# Altium schematic symbol library Ikaros.SchLib: 97 symbols
Pins are listed as number, name and electrical type; pins without a type are passive.

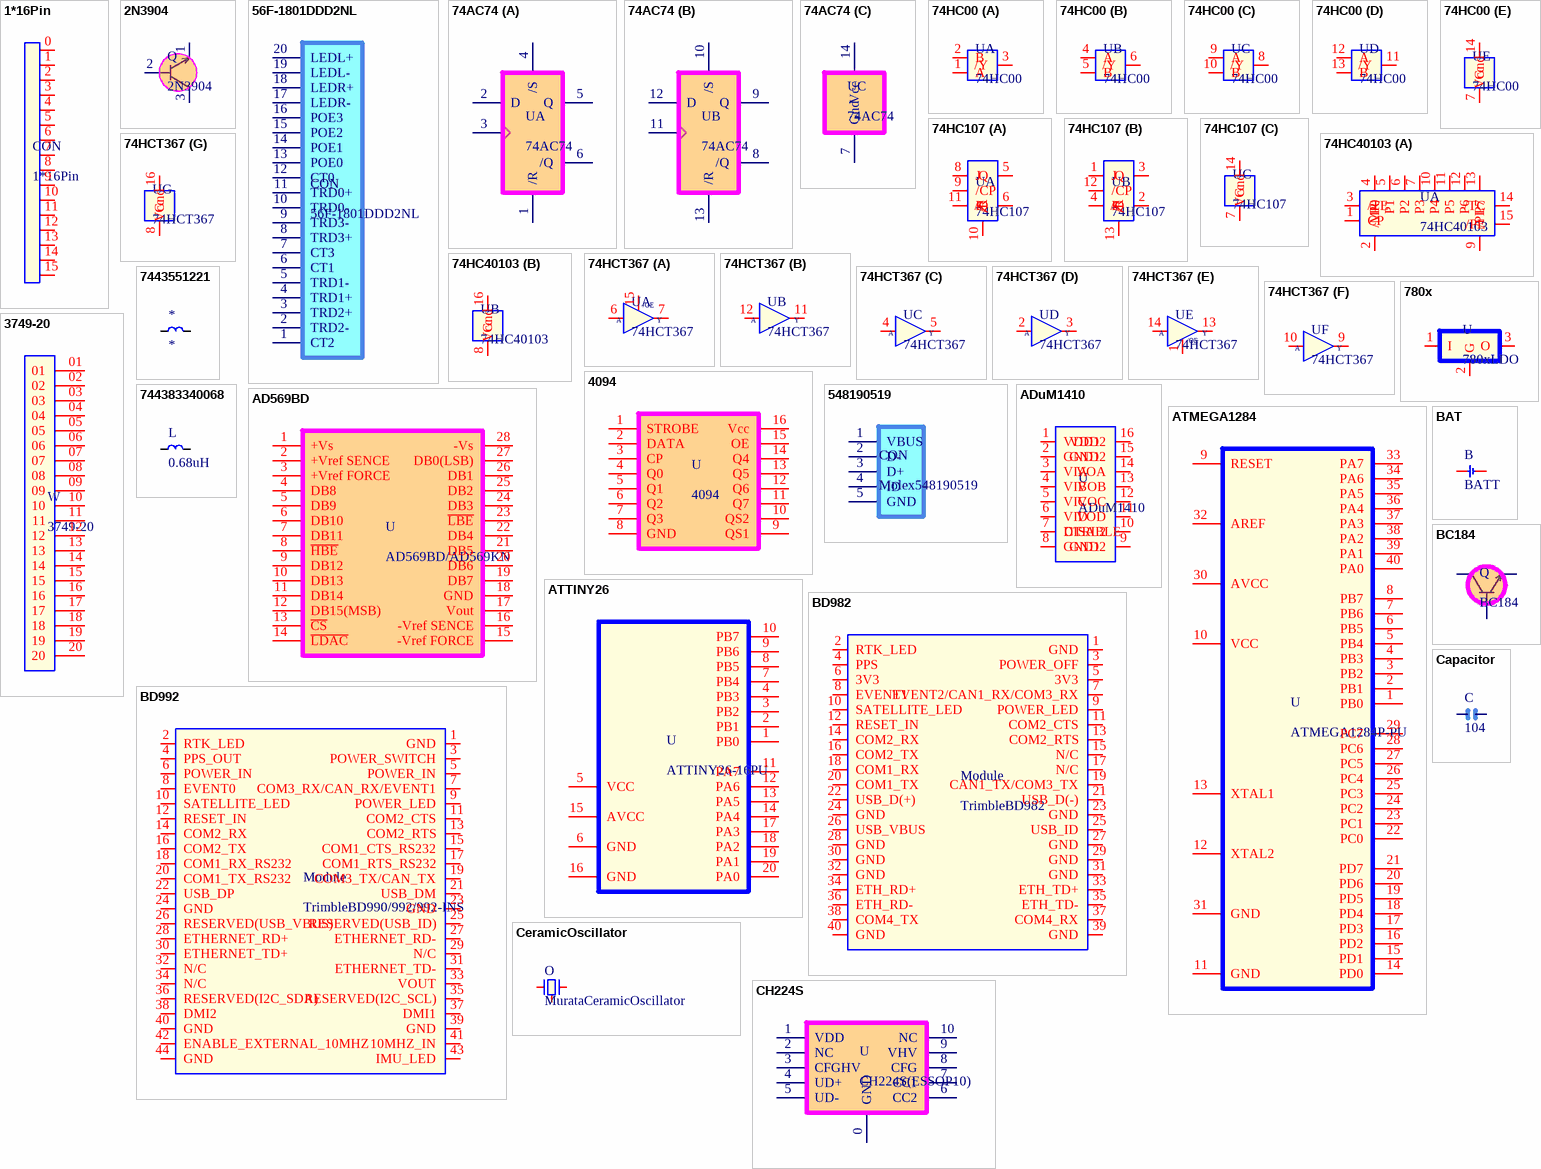
[diagram p0: symbols 1*16Pin to CH224S]

## 1*16Pin
designator CON
pins: 0, 1, 2, 3, 4, 5, 6, 7, 8, 9, 10, 11, 12, 13, 14, 15

## 2N3904
designator Q
pins: 1, 2, 3

## 56F-1801DDD2NL
designator CON
footprint 56F-1801DDD2NL
pins: 1 CT2, 2 TRD2-, 3 TRD2+, 4 TRD1+, 5 TRD1-, 6 CT1, 7 CT3, 8 TRD3+, 9 TRD3-, 10 TRD0-, 11 TRD0+, 12 CT0, 13 POE0, 14 POE1, 15 POE2, 16 POE3, 17 LEDR-, 18 LEDR+, 19 LEDL-, 20 LEDL+

## 74AC74
designator U
part A pins: 1 /R, 2 D, 3, 4 /S, 5 Q, 6 /Q
part B pins: 8 /Q, 9 Q, 10 /S, 11, 12 D, 13 /R
part C pins: 7 Gnd, 14 Vcc

## 74HC00
designator U
part A pins: 1 A, 2 B, 3 /Y
part B pins: 4 A, 5 B, 6 /Y
part C pins: 8 /Y, 9 A, 10 B
part D pins: 11 /Y, 12 A, 13 B
part E pins: 7 Gnd, 14 Vcc

## 74HC107
designator U
part A pins: 5 Q, 6 /Q, 8 J, 9 /CP, 10 /R, 11 K
part B pins: 1 J, 2 /Q, 3 Q, 4 K, 12 /CP, 13 /R
part C pins: 7 Gnd, 14 Vcc

## 74HC40103
designator U
part A pins: 1 CP, 2 /MR, 3 /TE, 4 P0, 5 P1, 6 P2, 7 P3, 9 /PL, 10 P4, 11 P5, 12 P6, 13 P7, 14 /TC, 15 /PE
part B pins: 8 Gnd, 16 Vcc

## 74HCT367
designator U
part A pins: 6 A, 7 Y, 15 /OE
part B pins: 11 Y, 12 A
part C pins: 4 A, 5 Y
part D pins: 2 A, 3 Y
part E pins: 1 /OE, 13 Y, 14 A
part F pins: 9 Y, 10 A
part G pins: 8 Gnd, 16 Vcc

## 780x
designator U, comment 780xLDO
pins: 1 I, 2 G, 3 O

## 3749-20
designator W
footprint 3749-20 (3M 3749-20)
pins: 01, 02, 03, 04, 05, 06, 07, 08, 09, 10, 11, 12, 13, 14, 15, 16, 17, 18, 19, 20

## 4094
designator U
pins: 1 STROBE, 2 DATA, 3 CP, 4 Q0, 5 Q1, 6 Q2, 7 Q3, 8 GND, 9 QS1, 10 QS2, 11 Q7, 12 Q6, 13 Q5, 14 Q4, 15 OE, 16 Vcc

## 548190519
designator CON, comment Molex548190519
footprint 548190519 (Molex548190519)
pins: 1 VBUS, 2 D-, 3 D+, 4 ID, 5 GND

## 7443551221
designator *
footprint 7443551221 (Precision Wire Wound Inductor, 2-Leads, Body 12.80x12.80mm, IPC Medium Density)
pins: 1, 2

## 744383340068
designator L, comment 0.68uH
footprint 744383340068 (Precision Wire Wound Inductor, 2-Leads, Body 3.00x3.00mm, IPC Medium Density)
pins: 1, 2

## AD569BD
designator U, comment AD569BD/AD569KN
pins: 1 +Vs, 2 +Vref SENCE, 3 +Vref FORCE, 4 DB8, 5 DB9, 6 DB10, 7 DB11, 8 ~{HBE}, 9 DB12, 10 DB13, 11 DB14, 12 DB15(MSB), 13 ~{CS}, 14 ~{LDAC}, 15 -Vref FORCE, 16 -Vref SENCE, 17 Vout, 18 GND, 19 DB7, 20 DB6, 21 DB5, 22 DB4, 23 ~{LBE}, 24 DB3, 25 DB2, 26 DB1, 27 DB0(LSB), 28 -Vs

## ADuM1410
designator U
pins: 1 VDD1, 2 GND1, 3 VIA, 4 VIB, 5 VIC, 6 VID, 7 DISABLE, 8 GND1, 9 GND2, 10 CTRL2, 11 VOD, 12 VOC, 13 VOB, 14 VOA, 15 GND2, 16 VDD2

## ATMEGA1284
designator U, comment ATMEGA1284P-PU
footprint DIP40
pins: 1 PB0, 2 PB1, 3 PB2, 4 PB3, 5 PB4, 6 PB5, 7 PB6, 8 PB7, 9 RESET, 10 VCC, 11 GND, 12 XTAL2, 13 XTAL1, 14 PD0, 15 PD1, 16 PD2, 17 PD3, 18 PD4, 19 PD5, 20 PD6, 21 PD7, 22 PC0, 23 PC1, 24 PC2, 25 PC3, 26 PC4, 27 PC5, 28 PC6, 29 PC7, 30 AVCC, 31 GND, 32 AREF, 33 PA7, 34 PA6, 35 PA5, 36 PA4, 37 PA3, 38 PA2, 39 PA1, 40 PA0

## ATTINY26
designator U, comment ATTINY26-16PU
pins: 1 PB0, 2 PB1, 3 PB2, 4 PB3, 5 VCC, 6 GND, 7 PB4, 8 PB5, 9 PB6, 10 PB7, 11 PA7, 12 PA6, 13 PA5, 14 PA4, 15 AVCC, 16 GND, 17 PA3, 18 PA2, 19 PA1, 20 PA0

## BAT
designator B, comment BATT
pins: 1 +, 2 -

## BC184
designator Q
footprint BC184 (NPN SILICON PLANAR EPITAXIAL TRANSISTORS)
pins: 1, 2, 3

## BD982
designator Module, comment TrimbleBD982
footprint BD982 (TrimbleBD982)
pins: 1 GND, 2 RTK_LED, 3 POWER_OFF, 4 PPS, 5 3V3, 6 3V3, 7 EVENT2/CAN1_RX/COM3_RX, 8 EVENT1, 9 POWER_LED, 10 SATELLITE_LED, 11 COM2_CTS, 12 RESET_IN, 13 COM2_RTS, 14 COM2_RX, 15 N/C, 16 COM2_TX, 17 N/C, 18 COM1_RX, 19 CAN1_TX/COM3_TX, 20 COM1_TX, 21 USB_D(-), 22 USB_D(+), 23 GND, 24 GND, 25 USB_ID, 26 USB_VBUS, 27 GND, 28 GND, 29 GND, 30 GND, 31 GND, 32 GND, 33 ETH_TD+, 34 ETH_RD+, 35 ETH_TD-, 36 ETH_RD-, 37 COM4_RX, 38 COM4_TX, 39 GND, 40 GND

## BD992
designator Module, comment TrimbleBD990/992/992-INS
pins: 1 GND, 2 RTK_LED, 3 POWER_SWITCH, 4 PPS_OUT, 5 POWER_IN, 6 POWER_IN, 7 COM3_RX/CAN_RX/EVENT1, 8 EVENT0, 9 POWER_LED, 10 SATELLITE_LED, 11 COM2_CTS, 12 RESET_IN, 13 COM2_RTS, 14 COM2_RX, 15 COM1_CTS_RS232, 16 COM2_TX, 17 COM1_RTS_RS232, 18 COM1_RX_RS232, 19 COM3_TX/CAN_TX, 20 COM1_TX_RS232, 21 USB_DM, 22 USB_DP, 23 GND, 24 GND, 25 RESERVED(USB_ID), 26 RESERVED(USB_VBUS), 27 ETHERNET_RD-, 28 ETHERNET_RD+, 29 N/C, 30 ETHERNET_TD+, 31 ETHERNET_TD-, 32 N/C, 33 VOUT, 34 N/C, 35 RESERVED(I2C_SCL), 36 RESERVED(I2C_SDA), 37 DMI1, 38 DMI2, 39 GND, 40 GND, 41 10MHZ_IN, 42 ENABLE_EXTERNAL_10MHZ, 43 IMU_LED, 44 GND

## Capacitor
designator C, comment 104
pins: 1, 2

## CeramicOscillator
designator O, comment MurataCeramicOscillator
pins: 1, 2, 3

## CH224S
designator U, comment CH224S(ESSOP10)
pins: 0 GND, 1 VDD, 2 NC, 3 CFGHV, 4 UD+, 5 UD-, 6 CC2, 7 CC1, 8 CFG, 9 VHV, 10 NC

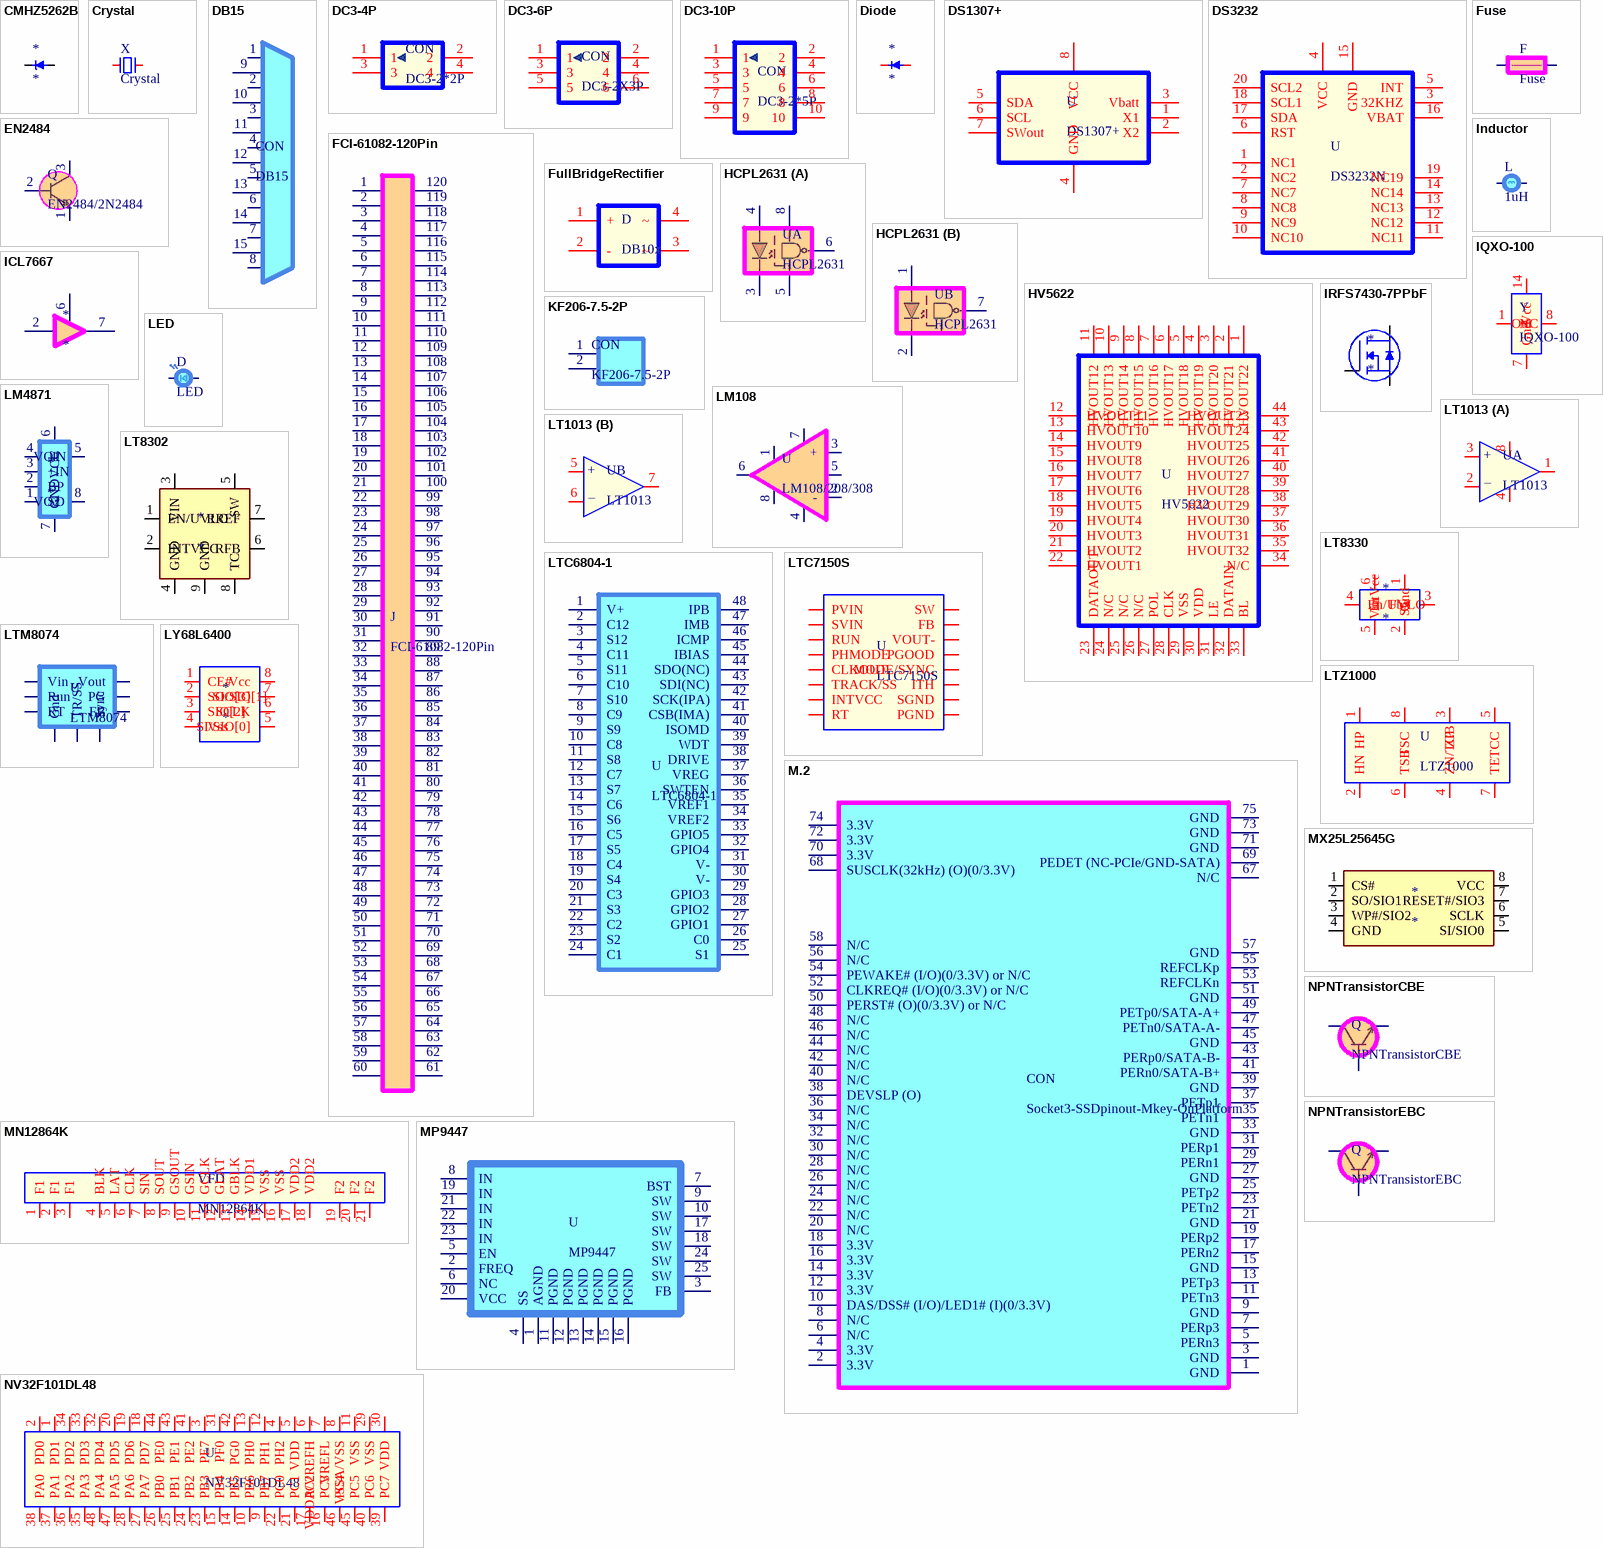
[diagram p1: symbols CMHZ5262B to NV32F101DL48]

## CMHZ5262B
designator *
footprint CMHZ5262B (SODFL, 2-Leads, Body 1.60x3.75mm, IPC Medium Density)
pins: 1 A, 2 C

## Crystal
designator X
pins: 1, 2

## DB15
designator CON
pins: 1, 2, 3, 4, 5, 6, 7, 8, 9, 10, 11, 12, 13, 14, 15

## DC3-4P
designator CON, comment DC3-2*2P
pins: 1, 2, 3, 4

## DC3-6P
designator CON, comment DC3-2X3P
pins: 1, 2, 3, 4, 5, 6

## DC3-10P
designator CON, comment DC3-2*5P
pins: 1, 2, 3, 4, 5, 6, 7, 8, 9, 10

## Diode
designator *
pins: 1 K, 2 A

## DS1307+
designator U
pins: 1 X1, 2 X2, 3 Vbatt, 4 GND, 5 SDA, 6 SCL, 7 SWout, 8 VCC

## DS3232
designator U, comment DS3232N
pins: 1 NC1, 2 NC2, 3 32KHZ, 4 VCC, 5 INT, 6 RST, 7 NC7, 8 NC8, 9 NC9, 10 NC10, 11 NC11, 12 NC12, 13 NC13, 14 NC14, 15 GND, 16 VBAT, 17 SDA, 18 SCL1, 19 NC19, 20 SCL2

## EN2484
designator Q, comment EN2484/2N2484
pins: 1, 2, 3

## FCI-61082-120Pin
designator J
footprint FCI-61082-120Pin
pins: 1, 2, 3, 4, 5, 6, 7, 8, 9, 10, 11, 12, 13, 14, 15, 16, 17, 18, 19, 20, 21, 22, 23, 24, 25, 26, 27, 28, 29, 30, 31, 32, 33, 34, 35, 36, 37, 38, 39, 40, 41, 42, 43, 44, 45, 46, 47, 48, 49, 50, 51, 52, 53, 54, 55, 56, 57, 58, 59, 60, 61, 62, 63, 64, 65, 66, 67, 68, 69, 70, 71, 72, 73, 74, 75, 76, 77, 78, 79, 80, 81, 82, 83, 84, 85, 86, 87, 88, 89, 90, 91, 92, 93, 94, 95, 96, 97, 98, 99, 100, 101, 102, 103, 104, 105, 106, 107, 108, 109, 110, 111, 112, 113, 114, 115, 116, 117, 118, 119, 120

## FullBridgeRectifier
designator D, comment DB10x
pins: 1 +, 2 -, 3 ~, 4 ~

## Fuse
designator F
pins: 1, 2

## HCPL2631
designator U
part A pins: 3, 4, 5, 6, 8
part B pins: 1, 2, 7

## HV5622
designator U
pins: 1 HVOUT22, 2 HVOUT21, 3 HVOUT20, 4 HVOUT19, 5 HVOUT18, 6 HVOUT17, 7 HVOUT16, 8 HVOUT15, 9 HVOUT14, 10 HVOUT13, 11 HVOUT12, 12 HVOUT11, 13 HVOUT10, 14 HVOUT9, 15 HVOUT8, 16 HVOUT7, 17 HVOUT6, 18 HVOUT5, 19 HVOUT4, 20 HVOUT3, 21 HVOUT2, 22 HVOUT1, 23 DATAOUT, 24 N/C, 25 N/C, 26 N/C, 27 POL, 28 CLK, 29 VSS, 30 VDD, 31 LE, 32 DATAIN, 33 BL, 34 N/C, 35 HVOUT32, 36 HVOUT31, 37 HVOUT30, 38 HVOUT29, 39 HVOUT28, 40 HVOUT27, 41 HVOUT26, 42 HVOUT25, 43 HVOUT24, 44 HVOUT23

## ICL7667
designator *
pins: 2, 6, 7

## Inductor
designator L, comment 1uH
pins: 1, 2

## IQXO-100
designator Y
pins: 1 NC, 7 Gnd, 8 Out, 14 Vcc

## IRFS7430-7PPbF
designator *
footprint IRFS7430-7PPbF (D2-PAK, 7-Pads, Body 7.93x8.70mm (max), IPC Medium Density)
pins: 1 G, 7,6,2,3,5 S, 8 D

## KF206-7.5-2P
designator CON
footprint KF206-7.5-2P
pins: 1, 2

## LED
designator D
pins: 1 A, 2 K

## LM108
designator U, comment LM108/208/308
pins: 1, 2 -, 3 +, 4, 5, 6, 7, 8

## LM4871
designator *
footprint LM4871 (TSOP, 8-Leads, Body 3.00x3.00mm, Pitch 0.65mm, IPC Medium Density)
pins: 1 SD, 2 BP, 3 +IN, 4 -IN, 5 VO1, 6 VCC, 7 GND, 8 VO2

## LT1013
designator U
part A pins: 1 OutA, 2 -INA, 3 +INA, 4 Vss, 8 Vcc
part B pins: 5 +INB, 6 -INB, 7 OutB
part A text: +; _
part B text: +; _

## LT8302
designator *
footprint LT8302 (SOP, 8-Leads, Body 4.90x3.90mm, Pitch 1.27mm, Thermal Pad 3.55x2.53mm, IPC Medium Density)
pins: 1 EN/UVLO, 2 INTVCC, 3 VIN, 4 GND, 5 SW, 6 RFB, 7 RREF, 8 TC, 9 GND

## LT8330
designator *
pins: 1 Sw, 2 Gnd, 3 Fbx, 4 En/UVLO, 5 IntVcc, 6 Vin

## LTC6804-1
designator U
pins: 1 V+, 2 C12, 3 S12, 4 C11, 5 S11, 6 C10, 7 S10, 8 C9, 9 S9, 10 C8, 11 S8, 12 C7, 13 S7, 14 C6, 15 S6, 16 C5, 17 S5, 18 C4, 19 S4, 20 C3, 21 S3, 22 C2, 23 S2, 24 C1, 25 S1, 26 C0, 27 GPIO1, 28 GPIO2, 29 GPIO3, 30 V-, 31 V-, 32 GPIO4, 33 GPIO5, 34 VREF2, 35 VREF1, 36 SWTEN, 37 VREG, 38 DRIVE, 39 WDT, 40 ISOMD, 41 CSB(IMA), 42 SCK(IPA), 43 SDI(NC), 44 SDO(NC), 45 IBIAS, 46 ICMP, 47 IMB, 48 IPB

## LTC7150S
designator U
pins: A1 PHMODE, A2 PGOOD, A3 RT, A4 ITH, A5 FB, A6 VOUT-, B1 CLKOUT, B2 RUN, B3 MODE/SYNC, B4 TRACK/SS, B5 SGND, B6 INTVCC, C1 SVIN, C2,C5,C6,D1,D2,D5,D6 PVIN, C3,C4,D3,D4,E3,E4,F3,F4,G3,G4 SW, E1,E2,E5,E6,F1,F2,F5,F6,G1,G2,G5,G6 PGND

## LTM8074
designator U
footprint LTM8074 (BGA, 25-Leads, Body 4.00x4.00mmx1.98mm, Pitch 0.65mm)
pins: A1,A5,B2,B3,B4,C2,C3,C4,C5,D2,D3,D4,E3,E4,E5 Gnd, A2 Run, A3,A4 Vin, B1 PG, B5 RT, C1 TR/SS, D1 FB, D5 Sync, E1,E2 Vout

## LTZ1000
designator U
footprint CAN-8/Y1.4 (Can; 8 Leads; Pin Circle Dia. 5.84 mm; Lead Dia. 0.48 mm (max))
pins: 1 HP, 2 HN, 3 ZP, 4 ZN/TCB, 5 TCC, 6 TSB, 7 TE, 8 TSC

## LY68L6400
designator *
footprint LY68L6400 (SOP, 8-Leads, Body 4.90x3.90mm, Pitch 1.27mm, IPC Medium Density)
pins: 1 CE#, 2 SO/SIO[1], 3 SIO[2], 4 Vss, 5 SI/SIO[0], 6 SCLK, 7 SIO[3], 8 Vcc

## M.2
designator CON, comment Socket3-SSDpinout-Mkey-OnPlatform
pins: 1 GND, 2 3.3V, 3 GND, 4 3.3V, 5 PERn3, 6 N/C, 7 PERp3, 8 N/C, 9 GND, 10 DAS/DSS# (I/O)/LED1# (I)(0/3.3V), 11 PETn3, 12 3.3V, 13 PETp3, 14 3.3V, 15 GND, 16 3.3V, 17 PERn2, 18 3.3V, 19 PERp2, 20 N/C, 21 GND, 22 N/C, 23 PETn2, 24 N/C, 25 PETp2, 26 N/C, 27 GND, 28 N/C, 29 PERn1, 30 N/C, 31 PERp1, 32 N/C, 33 GND, 34 N/C, 35 PETn1, 36 N/C, 37 PETp1, 38 DEVSLP (O), 39 GND, 40 N/C, 41 PERn0/SATA-B+, 42 N/C, 43 PERp0/SATA-B-, 44 N/C, 45 GND, 46 N/C, 47 PETn0/SATA-A-, 48 N/C, 49 PETp0/SATA-A+, 50 PERST# (O)(0/3.3V) or N/C, 51 GND, 52 CLKREQ# (I/O)(0/3.3V) or N/C, 53 REFCLKn, 54 PEWAKE# (I/O)(0/3.3V) or N/C, 55 REFCLKp, 56 N/C, 57 GND, 58 N/C, 67 N/C, 68 SUSCLK(32kHz) (O)(0/3.3V), 69 PEDET (NC-PCIe/GND-SATA), 70 3.3V, 71 GND, 72 3.3V, 73 GND, 74 3.3V, 75 GND

## MN12864K
designator VFD
footprint MN12864K (Noritake Itron MN12864K VFD)
pins: 1 F1 (power), 2 F1 (power), 3 F1 (power), 4 BLK, 5 LAT, 6 CLK, 7 SIN, 8 SOUT, 9 GSOUT, 10 GSIN, 11 GCLK, 12 GLAT, 13 GBLK, 14 VDD1 (power), 15 VSS (power), 16 VSS (power), 17 VDD2 (power), 18 VDD2 (power), 19 F2 (power), 20 F2 (power), 21 F2 (power)

## MP9447
designator U
pins: 1 AGND, 2 FREQ, 3 FB, 4 SS, 5 EN, 6 NC, 7 BST, 8 IN, 9 SW, 10 SW, 11 PGND, 12 PGND, 13 PGND, 14 PGND, 15 PGND, 16 PGND, 17 SW, 18 SW, 19 IN, 20 VCC, 21 IN, 22 IN, 23 IN, 24 SW, 25 SW

## MX25L25645G
designator *
pins: 1 CS#, 2 SO/SIO1, 3 WP#/SIO2, 4 GND, 5 SI/SIO0, 6 SCLK, 7 RESET#/SIO3, 8 VCC

## NPNTransistorCBE
designator Q
pins: 1, 2, 3

## NPNTransistorEBC
designator Q
pins: 1, 2, 3

## NV32F101DL48
designator U
pins: 1 PD1, 2 PD0, 3 PE7, 4 PH2, 5 VDD, 6 VDDA/VREFH, 7 VREFL, 8 VSSA/VSS, 9 PB7, 10 PB6, 11 VSS, 12 PH1, 13 PH0, 14 PB5, 15 PB4, 16 PC3, 17 PC2, 18 PD7, 19 PD6, 20 PD5, 21 PC1, 22 PC0, 23 PB3, 24 PB2, 25 PB1, 26 PB0, 27 PA7, 28 PA6, 29 VSS, 30 VDD, 31 PF0, 32 PD4, 33 PD3, 34 PD2, 35 PA3, 36 PA2, 37 PA1, 38 PA0, 39 PC7, 40 PC6, 41 PE2, 42 PG0, 43 PE1, 44 PE0, 45 PC5, 46 PC4, 47 PA5, 48 PA4

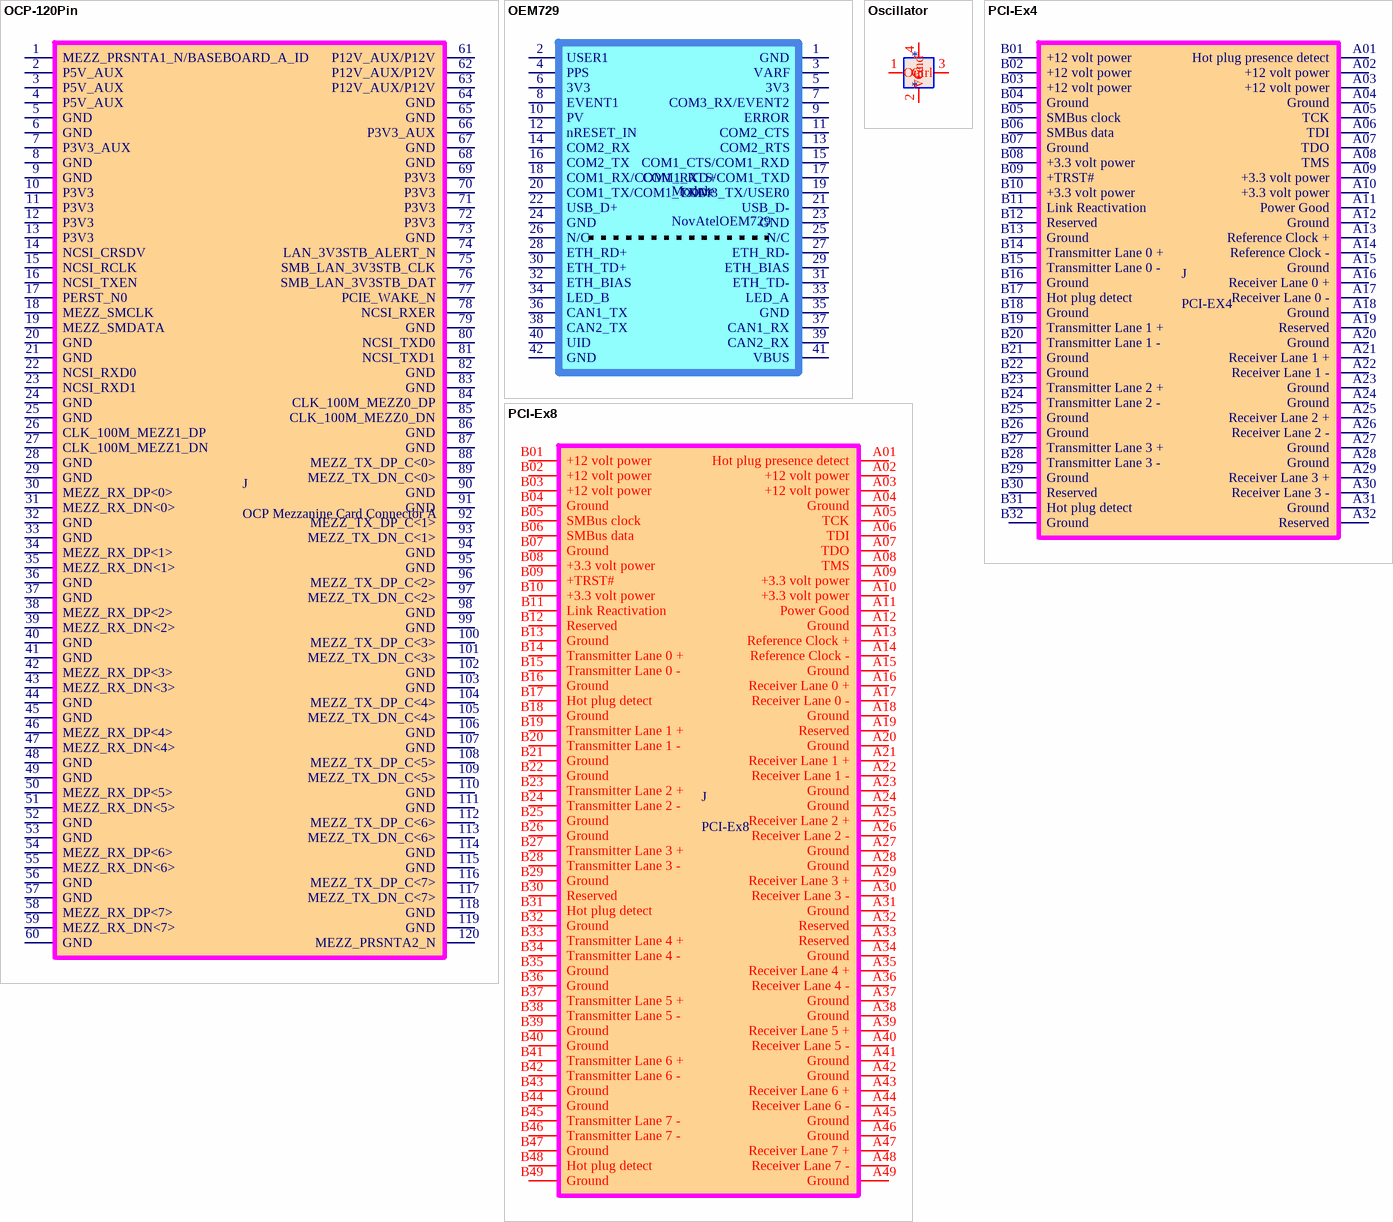
[diagram p2: symbols OCP-120Pin to PCI-Ex8]

## OCP-120Pin
designator J, comment OCP Mezzanine Card Connector A
footprint FCI-61082-120Pin
pins: 1 MEZZ_PRSNTA1_N/BASEBOARD_A_ID, 2 P5V_AUX, 3 P5V_AUX, 4 P5V_AUX, 5 GND, 6 GND, 7 P3V3_AUX, 8 GND, 9 GND, 10 P3V3, 11 P3V3, 12 P3V3, 13 P3V3, 14 NCSI_CRSDV, 15 NCSI_RCLK, 16 NCSI_TXEN, 17 PERST_N0, 18 MEZZ_SMCLK, 19 MEZZ_SMDATA, 20 GND, 21 GND, 22 NCSI_RXD0, 23 NCSI_RXD1, 24 GND, 25 GND, 26 CLK_100M_MEZZ1_DP, 27 CLK_100M_MEZZ1_DN, 28 GND, 29 GND, 30 MEZZ_RX_DP<0>, 31 MEZZ_RX_DN<0>, 32 GND, 33 GND, 34 MEZZ_RX_DP<1>, 35 MEZZ_RX_DN<1>, 36 GND, 37 GND, 38 MEZZ_RX_DP<2>, 39 MEZZ_RX_DN<2>, 40 GND, 41 GND, 42 MEZZ_RX_DP<3>, 43 MEZZ_RX_DN<3>, 44 GND, 45 GND, 46 MEZZ_RX_DP<4>, 47 MEZZ_RX_DN<4>, 48 GND, 49 GND, 50 MEZZ_RX_DP<5>, 51 MEZZ_RX_DN<5>, 52 GND, 53 GND, 54 MEZZ_RX_DP<6>, 55 MEZZ_RX_DN<6>, 56 GND, 57 GND, 58 MEZZ_RX_DP<7>, 59 MEZZ_RX_DN<7>, 60 GND, 61 P12V_AUX/P12V, 62 P12V_AUX/P12V, 63 P12V_AUX/P12V, 64 GND, 65 GND, 66 P3V3_AUX, 67 GND, 68 GND, 69 P3V3, 70 P3V3, 71 P3V3, 72 P3V3, 73 GND, 74 LAN_3V3STB_ALERT_N, 75 SMB_LAN_3V3STB_CLK, 76 SMB_LAN_3V3STB_DAT, 77 PCIE_WAKE_N, 78 NCSI_RXER, 79 GND, 80 NCSI_TXD0, 81 NCSI_TXD1, 82 GND, 83 GND, 84 CLK_100M_MEZZ0_DP, 85 CLK_100M_MEZZ0_DN, 86 GND, 87 GND, 88 MEZZ_TX_DP_C<0>, 89 MEZZ_TX_DN_C<0>, 90 GND, 91 GND, 92 MEZZ_TX_DP_C<1>, 93 MEZZ_TX_DN_C<1>, 94 GND, 95 GND, 96 MEZZ_TX_DP_C<2>, 97 MEZZ_TX_DN_C<2>, 98 GND, 99 GND, 100 MEZZ_TX_DP_C<3>, 101 MEZZ_TX_DN_C<3>, 102 GND, 103 GND, 104 MEZZ_TX_DP_C<4>, 105 MEZZ_TX_DN_C<4>, 106 GND, 107 GND, 108 MEZZ_TX_DP_C<5>, 109 MEZZ_TX_DN_C<5>, 110 GND, 111 GND, 112 MEZZ_TX_DP_C<6>, 113 MEZZ_TX_DN_C<6>, 114 GND, 115 GND, 116 MEZZ_TX_DP_C<7>, 117 MEZZ_TX_DN_C<7>, 118 GND, 119 GND, 120 MEZZ_PRSNTA2_N

## OEM729
designator Module, comment NovAtelOEM729
footprint OEM729 (NovAtelOEM729)
pins: 1 GND, 2 USER1, 3 VARF, 4 PPS, 5 3V3, 6 3V3, 7 COM3_RX/EVENT2, 8 EVENT1, 9 ERROR, 10 PV, 11 COM2_CTS, 12 nRESET_IN, 13 COM2_RTS, 14 COM2_RX, 15 COM1_CTS/COM1_RXD, 16 COM2_TX, 17 COM1_RTS/COM1_TXD, 18 COM1_RX/COM1_RXD+, 19 COM3_TX/USER0, 20 COM1_TX/COM1_TXD+, 21 USB_D-, 22 USB_D+, 23 GND, 24 GND, 25 N/C, 26 N/C, 27 ETH_RD-, 28 ETH_RD+, 29 ETH_BIAS, 30 ETH_TD+, 31 ETH_TD-, 32 ETH_BIAS, 33 LED_A, 34 LED_B, 35 GND, 36 CAN1_TX, 37 CAN1_RX, 38 CAN2_TX, 39 CAN2_RX, 40 UID, 41 VBUS, 42 GND

## Oscillator
designator *
pins: 1 Ctrl, 2 Gnd, 3 Out, 4 Vcc

## PCI-Ex4
designator J, comment PCI-EX4
pins: A01 Hot plug presence detect, A02 +12 volt power, A03 +12 volt power, A04 Ground, A05 TCK, A06 TDI, A07 TDO, A08 TMS, A09 +3.3 volt power, A10 +3.3 volt power, A11 Power Good, A12 Ground, A13 Reference Clock +, A14 Reference Clock -, A15 Ground, A16 Receiver Lane 0 +, A17 Receiver Lane 0 -, A18 Ground, A19 Reserved, A20 Ground, A21 Receiver Lane 1 +, A22 Receiver Lane 1 -, A23 Ground, A24 Ground, A25 Receiver Lane 2 +, A26 Receiver Lane 2 -, A27 Ground, A28 Ground, A29 Receiver Lane 3 +, A30 Receiver Lane 3 -, A31 Ground, A32 Reserved, B01 +12 volt power, B02 +12 volt power, B03 +12 volt power, B04 Ground, B05 SMBus clock, B06 SMBus data, B07 Ground, B08 +3.3 volt power, B09 +TRST#, B10 +3.3 volt power, B11 Link Reactivation, B12 Reserved, B13 Ground, B14 Transmitter Lane 0 +, B15 Transmitter Lane 0 -, B16 Ground, B17 Hot plug detect, B18 Ground, B19 Transmitter Lane 1 +, B20 Transmitter Lane 1 -, B21 Ground, B22 Ground, B23 Transmitter Lane 2 +, B24 Transmitter Lane 2 -, B25 Ground, B26 Ground, B27 Transmitter Lane 3 +, B28 Transmitter Lane 3 -, B29 Ground, B30 Reserved, B31 Hot plug detect, B32 Ground

## PCI-Ex8
designator J
pins: A01 Hot plug presence detect, A02 +12 volt power, A03 +12 volt power, A04 Ground, A05 TCK, A06 TDI, A07 TDO, A08 TMS, A09 +3.3 volt power, A10 +3.3 volt power, A11 Power Good, A12 Ground, A13 Reference Clock +, A14 Reference Clock -, A15 Ground, A16 Receiver Lane 0 +, A17 Receiver Lane 0 -, A18 Ground, A19 Reserved, A20 Ground, A21 Receiver Lane 1 +, A22 Receiver Lane 1 -, A23 Ground, A24 Ground, A25 Receiver Lane 2 +, A26 Receiver Lane 2 -, A27 Ground, A28 Ground, A29 Receiver Lane 3 +, A30 Receiver Lane 3 -, A31 Ground, A32 Reserved, A33 Reserved, A34 Ground, A35 Receiver Lane 4 +, A36 Receiver Lane 4 -, A37 Ground, A38 Ground, A39 Receiver Lane 5 +, A40 Receiver Lane 5 -, A41 Ground, A42 Ground, A43 Receiver Lane 6 +, A44 Receiver Lane 6 -, A45 Ground, A46 Ground, A47 Receiver Lane 7 +, A48 Receiver Lane 7 -, A49 Ground, B01 +12 volt power, B02 +12 volt power, B03 +12 volt power, B04 Ground, B05 SMBus clock, B06 SMBus data, B07 Ground, B08 +3.3 volt power, B09 +TRST#, B10 +3.3 volt power, B11 Link Reactivation, B12 Reserved, B13 Ground, B14 Transmitter Lane 0 +, B15 Transmitter Lane 0 -, B16 Ground, B17 Hot plug detect, B18 Ground, B19 Transmitter Lane 1 +, B20 Transmitter Lane 1 -, B21 Ground, B22 Ground, B23 Transmitter Lane 2 +, B24 Transmitter Lane 2 -, B25 Ground, B26 Ground, B27 Transmitter Lane 3 +, B28 Transmitter Lane 3 -, B29 Ground, B30 Reserved, B31 Hot plug detect, B32 Ground, B33 Transmitter Lane 4 +, B34 Transmitter Lane 4 -, B35 Ground, B36 Ground, B37 Transmitter Lane 5 +, B38 Transmitter Lane 5 -, B39 Ground, B40 Ground, B41 Transmitter Lane 6 +, B42 Transmitter Lane 6 -, B43 Ground, B44 Ground, B45 Transmitter Lane 7 -, B46 Transmitter Lane 7 -, B47 Ground, B48 Hot plug detect, B49 Ground

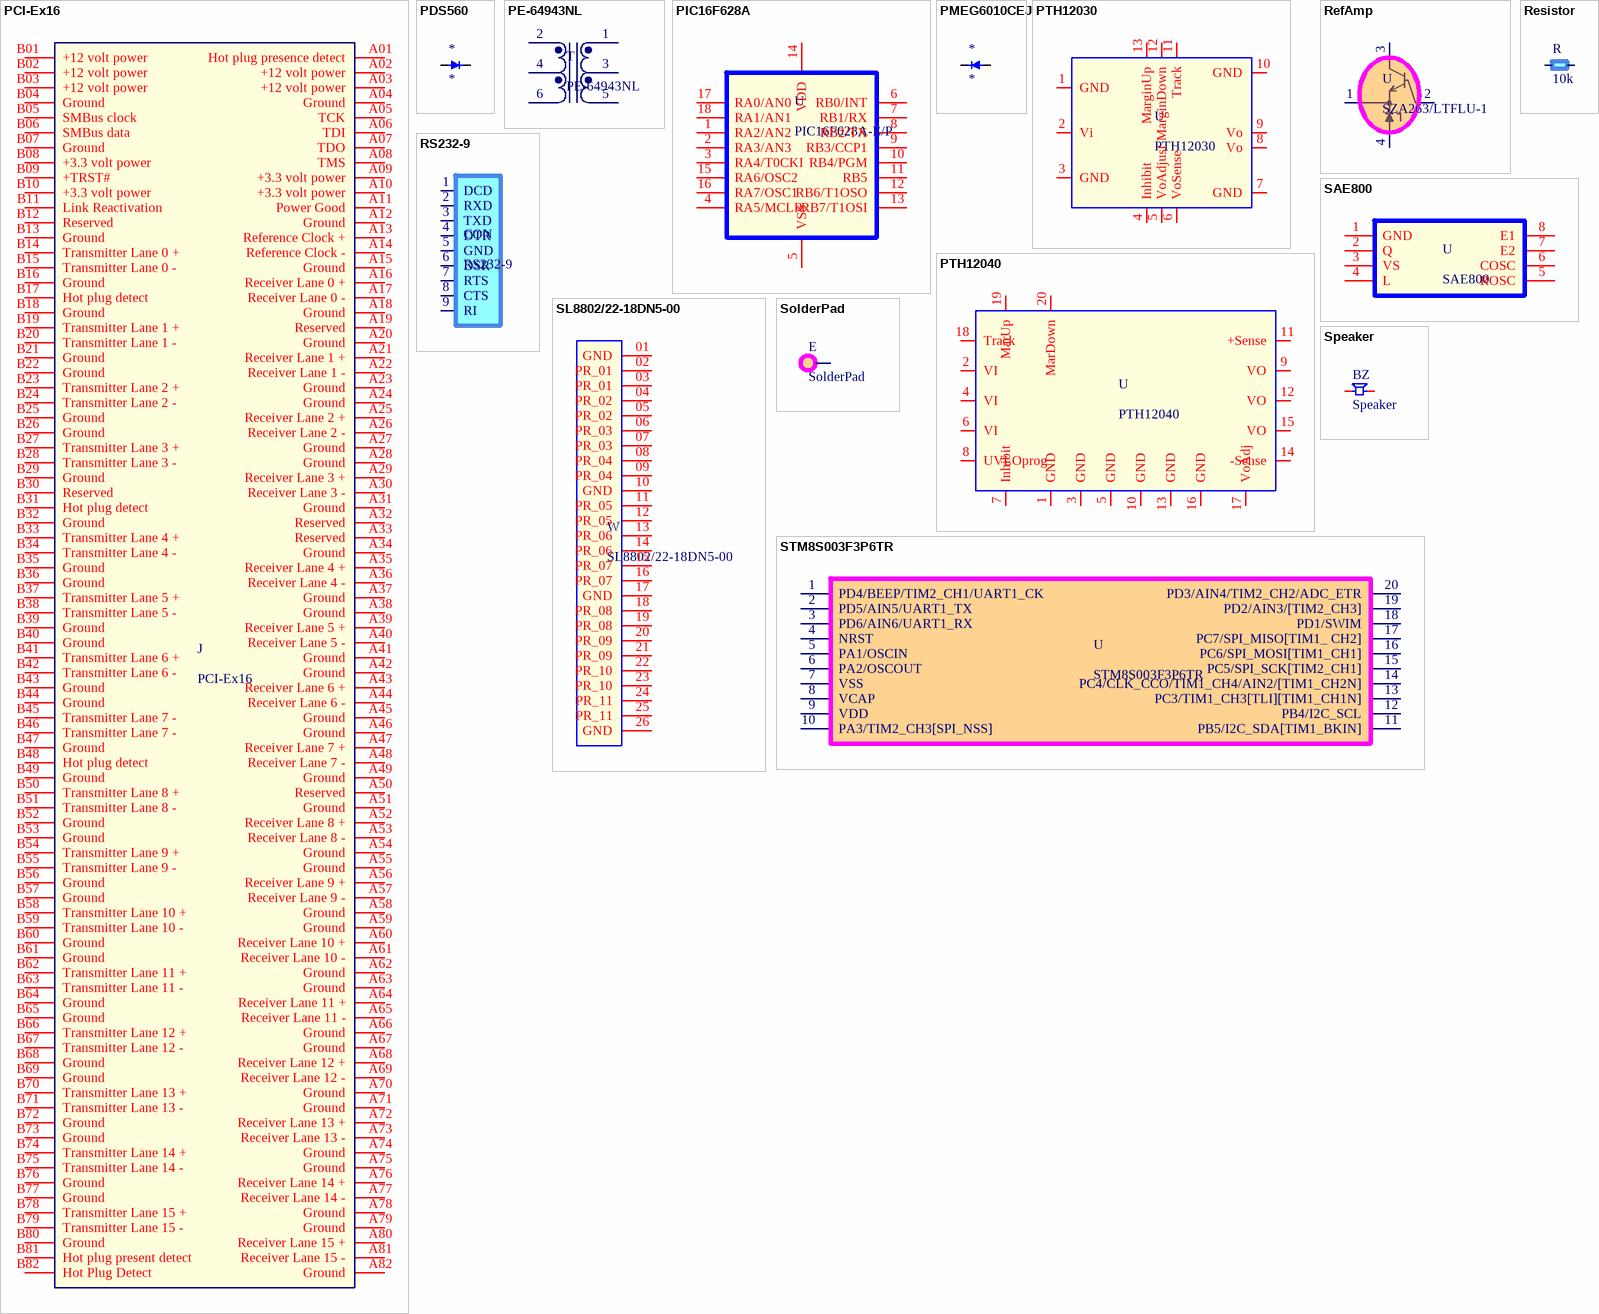
[diagram p3: symbols PCI-Ex16 to STM8S003F3P6TR]

## PCI-Ex16
designator J
pins: A01 Hot plug presence detect, A02 +12 volt power, A03 +12 volt power, A04 Ground, A05 TCK, A06 TDI, A07 TDO, A08 TMS, A09 +3.3 volt power, A10 +3.3 volt power, A11 Power Good, A12 Ground, A13 Reference Clock +, A14 Reference Clock -, A15 Ground, A16 Receiver Lane 0 +, A17 Receiver Lane 0 -, A18 Ground, A19 Reserved, A20 Ground, A21 Receiver Lane 1 +, A22 Receiver Lane 1 -, A23 Ground, A24 Ground, A25 Receiver Lane 2 +, A26 Receiver Lane 2 -, A27 Ground, A28 Ground, A29 Receiver Lane 3 +, A30 Receiver Lane 3 -, A31 Ground, A32 Reserved, A33 Reserved, A34 Ground, A35 Receiver Lane 4 +, A36 Receiver Lane 4 -, A37 Ground, A38 Ground, A39 Receiver Lane 5 +, A40 Receiver Lane 5 -, A41 Ground, A42 Ground, A43 Receiver Lane 6 +, A44 Receiver Lane 6 -, A45 Ground, A46 Ground, A47 Receiver Lane 7 +, A48 Receiver Lane 7 -, A49 Ground, A50 Reserved, A51 Ground, A52 Receiver Lane 8 +, A53 Receiver Lane 8 -, A54 Ground, A55 Ground, A56 Receiver Lane 9 +, A57 Receiver Lane 9 -, A58 Ground, A59 Ground, A60 Receiver Lane 10 +, A61 Receiver Lane 10 -, A62 Ground, A63 Ground, A64 Receiver Lane 11 +, A65 Receiver Lane 11 -, A66 Ground, A67 Ground, A68 Receiver Lane 12 +, A69 Receiver Lane 12 -, A70 Ground, A71 Ground, A72 Receiver Lane 13 +, A73 Receiver Lane 13 -, A74 Ground, A75 Ground, A76 Receiver Lane 14 +, A77 Receiver Lane 14 -, A78 Ground, A79 Ground, A80 Receiver Lane 15 +, A81 Receiver Lane 15 -, A82 Ground, B01 +12 volt power, B02 +12 volt power, B03 +12 volt power, B04 Ground, B05 SMBus clock, B06 SMBus data, B07 Ground, B08 +3.3 volt power, B09 +TRST#, B10 +3.3 volt power, B11 Link Reactivation, B12 Reserved, B13 Ground, B14 Transmitter Lane 0 +, B15 Transmitter Lane 0 -, B16 Ground, B17 Hot plug detect, B18 Ground, B19 Transmitter Lane 1 +, B20 Transmitter Lane 1 -, B21 Ground, B22 Ground, B23 Transmitter Lane 2 +, B24 Transmitter Lane 2 -, B25 Ground, B26 Ground, B27 Transmitter Lane 3 +, B28 Transmitter Lane 3 -, B29 Ground, B30 Reserved, B31 Hot plug detect, B32 Ground, B33 Transmitter Lane 4 +, B34 Transmitter Lane 4 -, B35 Ground, B36 Ground, B37 Transmitter Lane 5 +, B38 Transmitter Lane 5 -, B39 Ground, B40 Ground, B41 Transmitter Lane 6 +, B42 Transmitter Lane 6 -, B43 Ground, B44 Ground, B45 Transmitter Lane 7 -, B46 Transmitter Lane 7 -, B47 Ground, B48 Hot plug detect, B49 Ground, B50 Transmitter Lane 8 +, B51 Transmitter Lane 8 -, B52 Ground, B53 Ground, B54 Transmitter Lane 9 +, B55 Transmitter Lane 9 -, B56 Ground, B57 Ground, B58 Transmitter Lane 10 +, B59 Transmitter Lane 10 -, B60 Ground, B61 Ground, B62 Transmitter Lane 11 +, B63 Transmitter Lane 11 -, B64 Ground, B65 Ground, B66 Transmitter Lane 12 +, B67 Transmitter Lane 12 -, B68 Ground, B69 Ground, B70 Transmitter Lane 13 +, B71 Transmitter Lane 13 -, B72 Ground, B73 Ground, B74 Transmitter Lane 14 +, B75 Transmitter Lane 14 -, B76 Ground, B77 Ground, B78 Transmitter Lane 15 +, B79 Transmitter Lane 15 -, B80 Ground, B81 Hot plug present detect, B82 Hot Plug Detect

## PDS560
designator *
footprint PDS560 (DFN, 3-Leads, Body 3.97x6.50mm, Pitch 3.98mm, IPC Medium Density)
pins: 1 A1, 2 A2, 3 C

## PE-64943NL
designator T
pins: 1, 2, 3, 4, 5, 6

## PIC16F628A
designator U, comment PIC16F628A-E/P
pins: 1 RA2/AN2, 2 RA3/AN3, 3 RA4/T0CKI, 4 RA5/MCLR, 5 VSS, 6 RB0/INT, 7 RB1/RX, 8 RB2/TX, 9 RB3/CCP1, 10 RB4/PGM, 11 RB5, 12 RB6/T1OSO, 13 RB7/T1OSI, 14 VDD, 15 RA6/OSC2, 16 RA7/OSC1, 17 RA0/AN0, 18 RA1/AN1

## PMEG6010CEJ
designator *
pins: 1, 2

## PTH12030
designator U
pins: 1 GND, 2 Vi, 3 GND, 4 Inhibit, 5 VoAdjust, 6 VoSense, 7 GND, 8 Vo, 9 Vo, 10 GND, 11 Track, 12 MarginDown, 13 MarginUp

## PTH12040
designator U
pins: 1 GND, 2 VI, 3 GND, 4 VI, 5 GND, 6 VI, 7 Inhibit, 8 UVLOprog, 9 VO, 10 GND, 11 +Sense, 12 VO, 13 GND, 14 -Sense, 15 VO, 16 GND, 17 VoAdj, 18 Track, 19 MarUp, 20 MarDown

## RefAmp
designator U, comment SZA263/LTFLU-1
pins: 1, 2, 3, 4

## Resistor
designator R, comment 10k
pins: 1, 2

## RS232-9
designator CON
pins: 1 DCD, 2 RXD, 3 TXD, 4 DTR, 5 GND, 6 DSR, 7 RTS, 8 CTS, 9 RI

## SAE800
designator U
pins: 1 GND, 2 Q, 3 VS, 4 L, 5 ROSC, 6 COSC, 7 E2, 8 E1

## SL8802/22-18DN5-00
designator W
footprint SL8802/22-18DN5-00
pins: 01 GND, 02 PR_01, 03 PR_01, 04 PR_02, 05 PR_02, 06 PR_03, 07 PR_03, 08 PR_04, 09 PR_04, 10 GND, 11 PR_05, 12 PR_05, 13 PR_06, 14 PR_06, 15 PR_07, 16 PR_07, 17 GND, 18 PR_08, 19 PR_08, 20 PR_09, 21 PR_09, 22 PR_10, 23 PR_10, 24 PR_11, 25 PR_11, 26 GND

## SolderPad
designator E
pins: 0

## Speaker
designator BZ
pins: 1, 2

## STM8S003F3P6TR
designator U
pins: 1 PD4/BEEP/TIM2_CH1/UART1_CK, 2 PD5/AIN5/UART1_TX, 3 PD6/AIN6/UART1_RX, 4 NRST, 5 PA1/OSCIN, 6 PA2/OSCOUT, 7 VSS, 8 VCAP, 9 VDD, 10 PA3/TIM2_CH3[SPI_NSS], 11 PB5/I2C_SDA[TIM1_BKIN], 12 PB4/I2C_SCL, 13 PC3/TIM1_CH3[TLI][TIM1_CH1N], 14 PC4/CLK_CCO/TIM1_CH4/AIN2/[TIM1_CH2N], 15 PC5/SPI_SCK[TIM2_CH1], 16 PC6/SPI_MOSI[TIM1_CH1], 17 PC7/SPI_MISO[TIM1_ CH2], 18 PD1/SWIM, 19 PD2/AIN3/[TIM2_CH3], 20 PD3/AIN4/TIM2_CH2/ADC_ETR

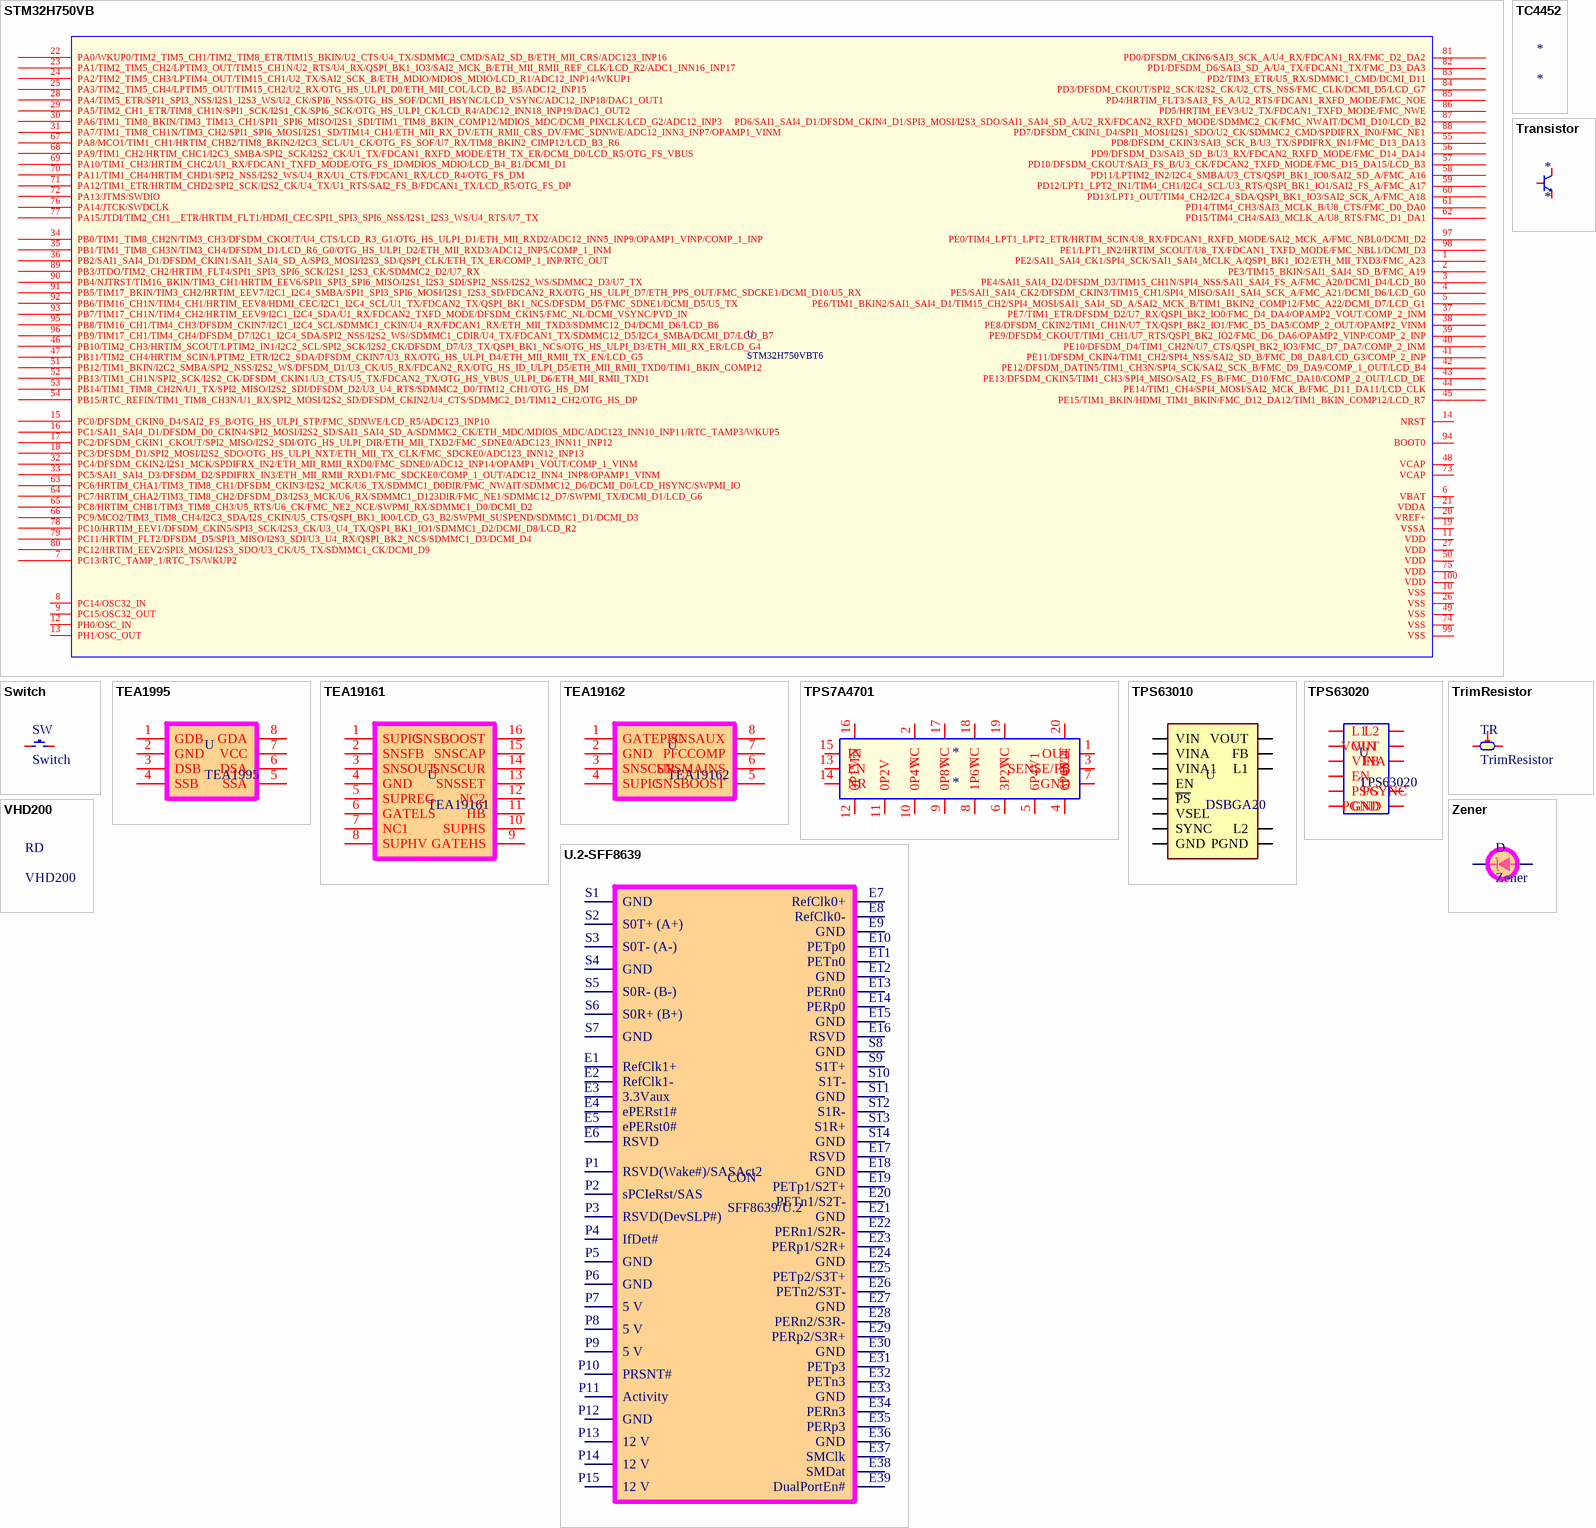
[diagram p4: symbols STM32H750VB to Zener]

## STM32H750VB
designator U, comment STM32H750VBT6
footprint STM32H750VBT6 (TSQFP, 100-Leads, Body 14.00x14.00mm, Pitch 0.50mm, IPC Medium Density)
pins: 1 PE2/SAI1_SAI4_CK1/SPI4_SCK/SAI1_SAI4_MCLK_A/QSPI_BK1_IO2/ETH_MII_TXD3/FMC_A23, 2 PE3/TIM15_BKIN/SAI1_SAI4_SD_B/FMC_A19, 3 PE4/SAI1_SAI4_D2/DFSDM_D3/TIM15_CH1N/SPI4_NSS/SAI1_SAI4_FS_A/FMC_A20/DCMI_D4/LCD_B0, 4 PE5/SAI1_SAI4_CK2/DFSDM_CKIN3/TIM15_CH1/SPI4_MISO/SAI1_SAI4_SCK_A/FMC_A21/DCMI_D6/LCD_G0, 5 PE6/TIM1_BKIN2/SAI1_SAI4_D1/TIM15_CH2/SPI4_MOSI/SAI1_SAI4_SD_A/SAI2_MCK_B/TIM1_BKIN2_COMP12/FMC_A22/DCMI_D7/LCD_G1, 6 VBAT, 7 PC13/RTC_TAMP_1/RTC_TS/WKUP2, 8 PC14/OSC32_IN, 9 PC15/OSC32_OUT, 10 VSS, 11 VDD, 12 PH0/OSC_IN, 13 PH1/OSC_OUT, 14 NRST, 15 PC0/DFSDM_CKIN0_D4/SAI2_FS_B/OTG_HS_ULPI_STP/FMC_SDNWE/LCD_R5/ADC123_INP10, 16 PC1/SAI1_SAI4_D1/DFSDM_D0_CKIN4/SPI2_MOSI/I2S2_SD/SAI1_SAI4_SD_A/SDMMC2_CK/ETH_MDC/MDIOS_MDC/ADC123_INN10_INP11/RTC_TAMP3/WKUP5, 17 PC2/DFSDM_CKIN1_CKOUT/SPI2_MISO/I2S2_SDI/OTG_HS_ULPI_DIR/ETH_MII_TXD2/FMC_SDNE0/ADC123_INN11_INP12, 18 PC3/DFSDM_D1/SPI2_MOSI/I2S2_SDO/OTG_HS_ULPI_NXT/ETH_MII_TX_CLK/FMC_SDCKE0/ADC123_INN12_INP13, 19 VSSA, 20 VREF+, 21 VDDA, 22 PA0/WKUP0/TIM2_TIM5_CH1/TIM2_TIM8_ETR/TIM15_BKIN/U2_CTS/U4_TX/SDMMC2_CMD/SAI2_SD_B/ETH_MII_CRS/ADC123_INP16, 23 PA1/TIM2_TIM5_CH2/LPTIM3_OUT/TIM15_CH1N/U2_RTS/U4_RX/QSPI_BK1_IO3/SAI2_MCK_B/ETH_MII_RMII_REF_CLK/LCD_R2/ADC1_INN16_INP17, 24 PA2/TIM2_TIM5_CH3/LPTIM4_OUT/TIM15_CH1/U2_TX/SAI2_SCK_B/ETH_MDIO/MDIOS_MDIO/LCD_R1/ADC12_INP14/WKUP1, 25 PA3/TIM2_TIM5_CH4/LPTIM5_OUT/TIM15_CH2/U2_RX/OTG_HS_ULPI_D0/ETH_MII_COL/LCD_B2_B5/ADC12_INP15, 26 VSS, 27 VDD, 28 PA4/TIM5_ETR/SPI1_SPI3_NSS/I2S1_I2S3_WS/U2_CK/SPI6_NSS/OTG_HS_SOF/DCMI_HSYNC/LCD_VSYNC/ADC12_INP18/DAC1_OUT1, 29 PA5/TIM2_CH1_ETR/TIM8_CH1N/SPI1_SCK/I2S1_CK/SPI6_SCK/OTG_HS_ULPI_CK/LCD_R4/ADC12_INN18_INP19/DAC1_OUT2, 30 PA6/TIM1_TIM8_BKIN/TIM3_TIM13_CH1/SPI1_SPI6_MISO/I2S1_SDI/TIM1_TIM8_BKIN_COMP12/MDIOS_MDC/DCMI_PIXCLK/LCD_G2/ADC12_INP3, 31 PA7/TIM1_TIM8_CH1N/TIM3_CH2/SPI1_SPI6_MOSI/I2S1_SD/TIM14_CH1/ETH_MII_RX_DV/ETH_RMII_CRS_DV/FMC_SDNWE/ADC12_INN3_INP7/OPAMP1_VINM, 32 PC4/DFSDM_CKIN2/I2S1_MCK/SPDIFRX_IN2/ETH_MII_RMII_RXD0/FMC_SDNE0/ADC12_INP14/OPAMP1_VOUT/COMP_1_VINM, 33 PC5/SAI1_SAI4_D3/DFSDM_D2/SPDIFRX_IN3/ETH_MII_RMII_RXD1/FMC_SDCKE0/COMP_1_OUT/ADC12_INN4_INP8/OPAMP1_VINM, 34 PB0/TIM1_TIM8_CH2N/TIM3_CH3/DFSDM_CKOUT/U4_CTS/LCD_R3_G1/OTG_HS_ULPI_D1/ETH_MII_RXD2/ADC12_INN5_INP9/OPAMP1_VINP/COMP_1_INP, 35 PB1/TIM1_TIM8_CH3N/TIM3_CH4/DFSDM_D1/LCD_R6_G0/OTG_HS_ULPI_D2/ETH_MII_RXD3/ADC12_INP5/COMP_1_INM, 36 PB2/SAI1_SAI4_D1/DFSDM_CKIN1/SAI1_SAI4_SD_A/SPI3_MOSI/I2S3_SD/QSPI_CLK/ETH_TX_ER/COMP_1_INP/RTC_OUT, 37 PE7/TIM1_ETR/DFSDM_D2/U7_RX/QSPI_BK2_IO0/FMC_D4_DA4/OPAMP2_VOUT/COMP_2_INM, 38 PE8/DFSDM_CKIN2/TIM1_CH1N/U7_TX/QSPI_BK2_IO1/FMC_D5_DA5/COMP_2_OUT/OPAMP2_VINM, 39 PE9/DFSDM_CKOUT/TIM1_CH1/U7_RTS/QSPI_BK2_IO2/FMC_D6_DA6/OPAMP2_VINP/COMP_2_INP, 40 PE10/DFSDM_D4/TIM1_CH2N/U7_CTS/QSPI_BK2_IO3/FMC_D7_DA7/COMP_2_INM, 41 PE11/DFSDM_CKIN4/TIM1_CH2/SPI4_NSS/SAI2_SD_B/FMC_D8_DA8/LCD_G3/COMP_2_INP, 42 PE12/DFSDM_DATIN5/TIM1_CH3N/SPI4_SCK/SAI2_SCK_B/FMC_D9_DA9/COMP_1_OUT/LCD_B4, 43 PE13/DFSDM_CKIN5/TIM1_CH3/SPI4_MISO/SAI2_FS_B/FMC_D10/FMC_DA10/COMP_2_OUT/LCD_DE, 44 PE14/TIM1_CH4/SPI4_MOSI/SAI2_MCK_B/FMC_D11_DA11/LCD_CLK, 45 PE15/TIM1_BKIN/HDMI_TIM1_BKIN/FMC_D12_DA12/TIM1_BKIN_COMP12/LCD_R7, 46 PB10/TIM2_CH3/HRTIM_SCOUT/LPTIM2_IN1/I2C2_SCL/SPI2_SCK/I2S2_CK/DFSDM_D7/U3_TX/QSPI_BK1_NCS/OTG_HS_ULPI_D3/ETH_MII_RX_ER/LCD_G4, 47 PB11/TIM2_CH4/HRTIM_SCIN/LPTIM2_ETR/I2C2_SDA/DFSDM_CKIN7/U3_RX/OTG_HS_ULPI_D4/ETH_MII_RMII_TX_EN/LCD_G5, 48 VCAP, 49 VSS, 50 VDD, 51 PB12/TIM1_BKIN/I2C2_SMBA/SPI2_NSS/I2S2_WS/DFSDM_D1/U3_CK/U5_RX/FDCAN2_RX/OTG_HS_ID_ULPI_D5/ETH_MII_RMII_TXD0/TIM1_BKIN_COMP12, 52 PB13/TIM1_CH1N/SPI2_SCK/I2S2_CK/DFSDM_CKIN1/U3_CTS/U5_TX/FDCAN2_TX/OTG_HS_VBUS_ULPI_D6/ETH_MII_RMII_TXD1, 53 PB14/TIM1_TIM8_CH2N/U1_TX/SPI2_MISO/I2S2_SDI/DFSDM_D2/U3_U4_RTS/SDMMC2_D0/TIM12_CH1/OTG_HS_DM, 54 PB15/RTC_REFIN/TIM1_TIM8_CH3N/U1_RX/SPI2_MOSI/I2S2_SD/DFSDM_CKIN2/U4_CTS/SDMMC2_D1/TIM12_CH2/OTG_HS_DP, 55 PD8/DFSDM_CKIN3/SAI3_SCK_B/U3_TX/SPDIFRX_IN1/FMC_D13_DA13, 56 PD9/DFSDM_D3/SAI3_SD_B/U3_RX/FDCAN2_RXFD_MODE/FMC_D14_DA14, 57 PD10/DFSDM_CKOUT/SAI3_FS_B/U3_CK/FDCAN2_TXFD_MODE/FMC_D15_DA15/LCD_B3, 58 PD11/LPTIM2_IN2/I2C4_SMBA/U3_CTS/QSPI_BK1_IO0/SAI2_SD_A/FMC_A16, 59 PD12/LPT1_LPT2_IN1/TIM4_CH1/I2C4_SCL/U3_RTS/QSPI_BK1_IO1/SAI2_FS_A/FMC_A17, 60 PD13/LPT1_OUT/TIM4_CH2/I2C4_SDA/QSPI_BK1_IO3/SAI2_SCK_A/FMC_A18, 61 PD14/TIM4_CH3/SAI3_MCLK_B/U8_CTS/FMC_D0_DA0, 62 PD15/TIM4_CH4/SAI3_MCLK_A/U8_RTS/FMC_D1_DA1, 63 PC6/HRTIM_CHA1/TIM3_TIM8_CH1/DFSDM_CKIN3/I2S2_MCK/U6_TX/SDMMC1_D0DIR/FMC_NWAIT/SDMMC12_D6/DCMI_D0/LCD_HSYNC/SWPMI_IO, 64 PC7/HRTIM_CHA2/TIM3_TIM8_CH2/DFSDM_D3/I2S3_MCK/U6_RX/SDMMC1_D123DIR/FMC_NE1/SDMMC12_D7/SWPMI_TX/DCMI_D1/LCD_G6, 65 PC8/HRTIM_CHB1/TIM3_TIM8_CH3/U5_RTS/U6_CK/FMC_NE2_NCE/SWPMI_RX/SDMMC1_D0/DCMI_D2, 66 PC9/MCO2/TIM3_TIM8_CH4/I2C3_SDA/I2S_CKIN/U5_CTS/QSPI_BK1_IO0/LCD_G3_B2/SWPMI_SUSPEND/SDMMC1_D1/DCMI_D3, 67 PA8/MCO1/TIM1_CH1/HRTIM_CHB2/TIM8_BKIN2/I2C3_SCL/U1_CK/OTG_FS_SOF/U7_RX/TIM8_BKIN2_CIMP12/LCD_B3_R6, 68 PA9/TIM1_CH2/HRTIM_CHC1/I2C3_SMBA/SPI2_SCK/I2S2_CK/U1_TX/FDCAN1_RXFD_MODE/ETH_TX_ER/DCMI_D0/LCD_R5/OTG_FS_VBUS, 69 PA10/TIM1_CH3/HRTIM_CHC2/U1_RX/FDCAN1_TXFD_MODE/OTG_FS_ID/MDIOS_MDIO/LCD_B4_B1/DCMI_D1, 70 PA11/TIM1_CH4/HRTIM_CHD1/SPI2_NSS/I2S2_WS/U4_RX/U1_CTS/FDCAN1_RX/LCD_R4/OTG_FS_DM, 71 PA12/TIM1_ETR/HRTIM_CHD2/SPI2_SCK/I2S2_CK/U4_TX/U1_RTS/SAI2_FS_B/FDCAN1_TX/LCD_R5/OTG_FS_DP, 72 PA13/JTMS/SWDIO, 73 VCAP, 74 VSS, 75 VDD, 76 PA14/JTCK/SWDCLK, 77 PA15/JTDI/TIM2_CH1__ETR/HRTIM_FLT1/HDMI_CEC/SPI1_SPI3_SPI6_NSS/I2S1_I2S3_WS/U4_RTS/U7_TX, 78 PC10/HRTIM_EEV1/DFSDM_CKIN5/SPI3_SCK/I2S3_CK/U3_U4_TX/QSPI_BK1_IO1/SDMMC1_D2/DCMI_D8/LCD_R2, 79 PC11/HRTIM_FLT2/DFSDM_D5/SPI3_MISO/I2S3_SDI/U3_U4_RX/QSPI_BK2_NCS/SDMMC1_D3/DCMI_D4, 80 PC12/HRTIM_EEV2/SPI3_MOSI/I2S3_SDO/U3_CK/U5_TX/SDMMC1_CK/DCMI_D9, 81 PD0/DFSDM_CKIN6/SAI3_SCK_A/U4_RX/FDCAN1_RX/FMC_D2_DA2, 82 PD1/DFSDM_D6/SAI3_SD_A/U4_TX/FDCAN1_TX/FMC_D3_DA3, 83 PD2/TIM3_ETR/U5_RX/SDMMC1_CMD/DCMI_D11, 84 PD3/DFSDM_CKOUT/SPI2_SCK/I2S2_CK/U2_CTS_NSS/FMC_CLK/DCMI_D5/LCD_G7, 85 PD4/HRTIM_FLT3/SAI3_FS_A/U2_RTS/FDCAN1_RXFD_MODE/FMC_NOE, 86 PD5/HRTIM_EEV3/U2_TX/FDCAN1_TXFD_MODE/FMC_NWE, 87 PD6/SAI1_SAI4_D1/DFSDM_CKIN4_D1/SPI3_MOSI/I2S3_SDO/SAI1_SAI4_SD_A/U2_RX/FDCAN2_RXFD_MODE/SDMMC2_CK/FMC_NWAIT/DCMI_D10/LCD_B2, 88 PD7/DFSDM_CKIN1_D4/SPI1_MOSI/I2S1_SDO/U2_CK/SDMMC2_CMD/SPDIFRX_IN0/FMC_NE1, 89 PB3/JTDO/TIM2_CH2/HRTIM_FLT4/SPI1_SPI3_SPI6_SCK/I2S1_I2S3_CK/SDMMC2_D2/U7_RX, 90 PB4/NJTRST/TIM16_BKIN/TIM3_CH1/HRTIM_EEV6/SPI1_SPI3_SPI6_MISO/I2S1_I2S3_SDI/SPI2_NSS/I2S2_WS/SDMMC2_D3/U7_TX, 91 PB5/TIM17_BKIN/TIM3_CH2/HRTIM_EEV7/I2C1_I2C4_SMBA/SPI1_SPI3_SPI6_MOSI/I2S1_I2S3_SD/FDCAN2_RX/OTG_HS_ULPI_D7/ETH_PPS_OUT/FMC_SDCKE1/DCMI_D10/U5_RX, 92 PB6/TIM16_CH1N/TIM4_CH1/HRTIM_EEV8/HDMI_CEC/I2C1_I2C4_SCL/U1_TX/FDCAN2_TX/QSPI_BK1_NCS/DFSDM_D5/FMC_SDNE1/DCMI_D5/U5_TX, 93 PB7/TIM17_CH1N/TIM4_CH2/HRTIM_EEV9/I2C1_I2C4_SDA/U1_RX/FDCAN2_TXFD_MODE/DFSDM_CKIN5/FMC_NL/DCMI_VSYNC/PVD_IN, 94 BOOT0, 95 PB8/TIM16_CH1/TIM4_CH3/DFSDM_CKIN7/I2C1_I2C4_SCL/SDMMC1_CKIN/U4_RX/FDCAN1_RX/ETH_MII_TXD3/SDMMC12_D4/DCMI_D6/LCD_B6, 96 PB9/TIM17_CH1/TIM4_CH4/DFSDM_D7/I2C1_I2C4_SDA/SPI2_NSS/I2S2_WS//SDMMC1_CDIR/U4_TX/FDCAN1_TX/SDMMC12_D5/I2C4_SMBA/DCMI_D7/LCD_B7, 97 PE0/TIM4_LPT1_LPT2_ETR/HRTIM_SCIN/U8_RX/FDCAN1_RXFD_MODE/SAI2_MCK_A/FMC_NBL0/DCMI_D2, 98 PE1/LPT1_IN2/HRTIM_SCOUT/U8_TX/FDCAN1_TXFD_MODE/FMC_NBL1/DCMI_D3, 99 VSS, 100 VDD

## Switch
designator SW
pins: 1, 2

## TC4452
designator *

## TEA1995
designator U
pins: 1 GDB, 2 GND, 3 DSB, 4 SSB, 5 SSA, 6 DSA, 7 VCC, 8 GDA

## TEA19161
designator U
pins: 1 SUPIC, 2 SNSFB, 3 SNSOUT, 4 GND, 5 SUPREG, 6 GATELS, 7 NC1, 8 SUPHV, 9 GATEHS, 10 SUPHS, 11 HB, 12 NC2, 13 SNSSET, 14 SNSCUR, 15 SNSCAP, 16 SNSBOOST

## TEA19162
designator U
pins: 1 GATEPFC, 2 GND, 3 SNSCUR, 4 SUPIC, 5 SNSBOOST, 6 SNSMAINS, 7 PFCCOMP, 8 SNSAUX

## TPS7A4701
designator *
footprint TPS7A4701 (PQFN, 20-Leads, Body 5.00x5.00mm, Pitch 0.65mm, Thermal Pad 3.15x3.15mm, IPC Medium Density)
pins: 1 OUT, 2 NC, 3 SENSE/FB, 4 6P4V2, 5 6P4V1, 6 3P2V, 7 GND, 8 1P6V, 9 0P8V, 10 0P4V, 11 0P2V, 12 0P1V, 13 EN, 14 NR, 15 IN, 16 IN, 17 NC, 18 NC, 19 NC, 20 OUT

## TPS63010
designator U, comment DSBGA20
footprint TPS63010 (BGA, 20-Leads, Body 1.92x2.13mmx0.63mm, Pitch 0.40mm)
pins: A1,A2 VIN, A3 VINA, A4 EN, B1,B2 L1, B3 VINA1, B4 SYNC, C1,C2 PGND, C3,D3,E4 GND, C4 ~{PS}, D1,D2 L2, D4 VSEL, E1,E2 VOUT, E3 FB

## TPS63020
designator U
footprint TPS63020 (SON, 14-Leads, Body 4.00x3.00mm, Pitch 0.50mm, Thermal Pad 2.85x1.44mm, IPC Medium Density)
pins: 1 VINA, 2 GND, 3 FB, 4,5 VOUT, 7,6 L2, 8,9 L1, 10,11 VIN, 12 EN, 13 PS/SYNC, 14 PG, 15 PGND

## Transistor
designator *
pins: 1 E, 2 B, 3 C

## TrimResistor
designator TR
pins: 1, 2, 3

## U.2-SFF8639
designator CON, comment SFF8639/U.2
footprint 78809-0001 (12G SAS REC RIGHT ANGLE CONNECTOR)
pins: E1 RefClk1+, E2 RefClk1-, E3 3.3Vaux, E4 ePERst1#, E5 ePERst0#, E6 RSVD, E7 RefClk0+, E8 RefClk0-, E9 GND, E10 PETp0, E11 PETn0, E12 GND, E13 PERn0, E14 PERp0, E15 GND, E16 RSVD, E17 RSVD, E18 GND, E19 PETp1/S2T+, E20 PETn1/S2T-, E21 GND, E22 PERn1/S2R-, E23 PERp1/S2R+, E24 GND, E25 PETp2/S3T+, E26 PETn2/S3T-, E27 GND, E28 PERn2/S3R-, E29 PERp2/S3R+, E30 GND, E31 PETp3, E32 PETn3, E33 GND, E34 PERn3, E35 PERp3, E36 GND, E37 SMClk, E38 SMDat, E39 DualPortEn#, P1 RSVD(Wake#)/SASAct2, P2 sPCIeRst/SAS, P3 RSVD(DevSLP#), P4 IfDet#, P5 GND, P6 GND, P7 5 V, P8 5 V, P9 5 V, P10 PRSNT#, P11 Activity, P12 GND, P13 12 V, P14 12 V, P15 12 V, S1 GND, S2 S0T+ (A+), S3 S0T- (A-), S4 GND, S5 S0R- (B-), S6 S0R+ (B+), S7 GND, S8 GND, S9 S1T+, S10 S1T-, S11 GND, S12 S1R-, S13 S1R+, S14 GND

## VHD200
designator RD

## Zener
designator D
pins: 1 Anode, 2 Cathode